# Altium footprint library Connector_USB.PcbLib: 53 footprints (part 4 of 4)
Each footprint in its own frame and in the unit in brackets; x right, y up, seen from the top. Pads: shape width x height; smd on the part's side, far side on the other; paste and mask are expansions set on the pad; w line width, h text height; cw(c..) or ccw(c..) is an arc to the next point about the centre after c.
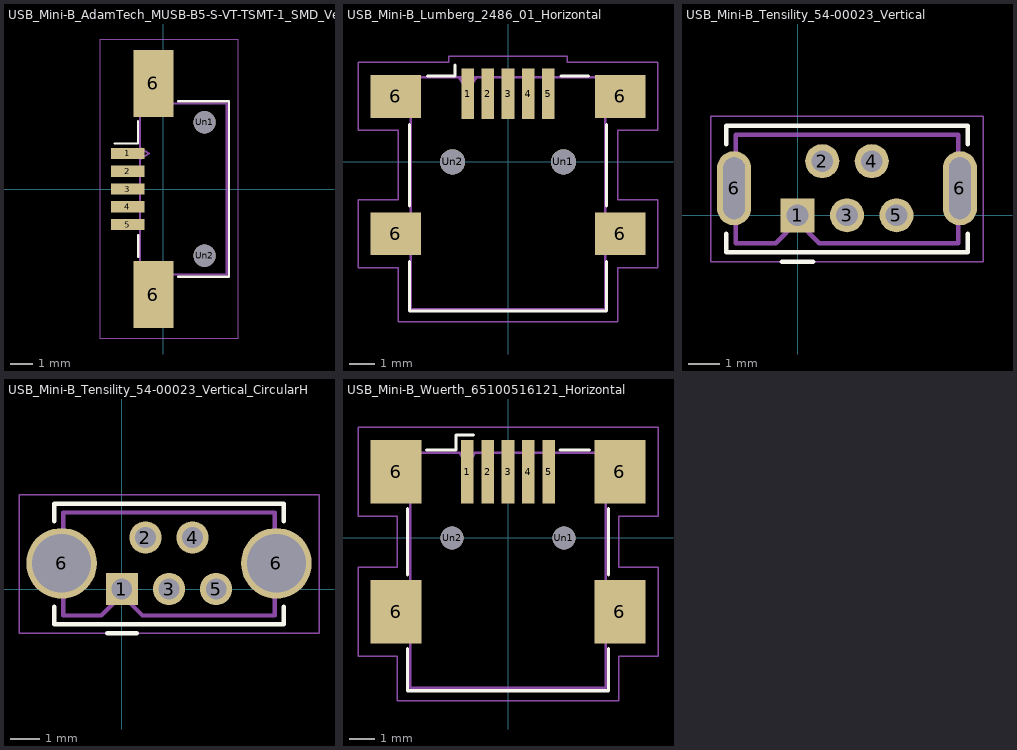
[diagram p3: the footprints below, top view; thin cyan lines are the x and y axes]

## USB_Mini-B_AdamTech_MUSB-B5-S-VT-TSMT-1_SMD_Vertical [mm]
pads (9):
  rect 1.5x0.5 smd: 1(-1.6,1.6) 2(-1.6,0.8) 3(-1.6,0) 4(-1.6,-0.8) 5(-1.6,-1.6)
  rect 1.8x3 smd: 6(-0.45,-4.75) 6(-0.45,4.75)
  round 1 hole 1: Un1(1.85,3) Un2(1.85,-3)
F.SilkS:
  lines w0.1: -2.2,2.05 -1.15,2.05 -1.15,3.05 ; -1.139,-3.064 -1.139,-2.064 ; 0.65,-3.95 2.95,-3.95 2.95,3.95 0.65,3.95
F.CrtYd:
  lines w0.05: -2.85,-6.75 3.35,-6.75 3.35,6.75 -2.85,6.75 -2.85,-6.75
F.Fab:
  lines w0.1: -1.05,-3.85 2.85,-3.85 2.85,3.85 -1.05,3.85 ; -1.05,1.35 -0.65,1.6 -1.05,1.85 ; 0.2,-3.85 0.2,-5.85 -1.05,-5.85 -1.05,5.85 0.2,5.85 0.2,3.85
  text "'.Designator'" at 1.33,-4.062 h1

## USB_Mini-B_Lumberg_2486_01_Horizontal [mm]
pads (11):
  rect 0.5x2 smd: 1(-1.6,2.7) 2(-0.8,2.7) 3(0,2.7) 4(0.8,2.7) 5(1.6,2.7)
  rect 2x1.7 smd: 6(-4.45,-2.85) 6(-4.45,2.6) 6(4.45,-2.85) 6(4.45,2.6)
  round 1 hole 1: Un1(2.2,0) Un2(-2.2,0)
F.SilkS:
  lines w0.12: -3.91,-3.96 -3.91,-5.91 3.91,-5.91 3.91,-3.96 ; -3.91,-1.74 -3.91,1.49 ; -3.19,3.41 -2.11,3.41 -2.11,3.84 ; 2.11,3.41 3.19,3.41 ; 3.91,-1.74 3.91,1.49
F.CrtYd:
  lines w0.05: -5.95,-4.2 -4.35,-4.2 -4.35,-6.35 4.35,-6.35 4.35,-4.2 5.95,-4.2 5.95,-1.5 4.35,-1.5 4.35,1.25 5.95,1.25 5.95,3.95 2.35,3.95 2.35,4.2 -2.35,4.2 -2.35,3.95 -5.95,3.95 -5.95,1.25 -4.35,1.25 -4.35,-1.5 -5.95,-1.5 -5.95,-4.2
F.Fab:
  lines w0.1: -1.95,3.35 -1.6,2.85 -1.25,3.35 ; -3.85,-5.85 3.85,-5.85 3.85,3.35 -3.85,3.35 -3.85,-5.85
  text "'.Designator'" at -4.047,-2.44 h1

## USB_Mini-B_Tensility_54-00023_Vertical [mm]
pads (7):
  rect 1.1x1.1 hole 0.7: 1(0,0)
  round 1.1 hole 0.7: 2(0.8,1.75) 3(1.6,0) 4(2.4,1.75) 5(3.2,0)
  rrect100% 1.1x2.4 hole 2 slot 0.7 at 0 deg: 6(-2.05,0.875) 6(5.25,0.875)
F.SilkS:
  lines w0.15: -2.3,-0.6 -2.3,-1.2 5.5,-1.2 5.5,-0.6 ; -2.3,2.3 -2.3,2.9 5.5,2.9 5.5,2.3 ; -0.5,-1.5 0.5,-1.5
F.CrtYd:
  lines w0.05: -2.8,-1.5 6,-1.5 6,3.2 -2.8,3.2 -2.8,-1.5
F.Fab:
  lines w0.15: -2,-0.9 -0.7,-0.9 0,-0.2 0.7,-0.9 5.2,-0.9 5.2,2.6 -2,2.6 -2,-0.9
  text "'.Designator'" at -2.547,0.16 h1

## USB_Mini-B_Tensility_54-00023_Vertical_CircularHoles [mm]
pads (7):
  rect 1.1x1.1 hole 0.7: 1(0,0)
  round 1.1 hole 0.7: 2(0.8,1.75) 3(1.6,0) 4(2.4,1.75) 5(3.2,0)
  round 2.4 hole 2: 6(-2.05,0.875) 6(5.25,0.875)
F.SilkS:
  lines w0.15: -2.3,-0.6 -2.3,-1.2 5.5,-1.2 5.5,-0.6 ; -2.3,2.3 -2.3,2.9 5.5,2.9 5.5,2.3 ; -0.5,-1.5 0.5,-1.5
F.CrtYd:
  lines w0.05: -3.5,-1.5 6.7,-1.5 6.7,3.2 -3.5,3.2 -3.5,-1.5
F.Fab:
  lines w0.15: -2,-0.9 -0.7,-0.9 0,-0.2 0.7,-0.9 5.2,-0.9 5.2,2.6 -2,2.6 -2,-0.9
  text "'.Designator'" at -2.547,0.16 h1

## USB_Mini-B_Wuerth_65100516121_Horizontal [mm]
pads (11):
  rect 0.5x2.5 smd: 1(-1.6,2.6) 2(-0.8,2.6) 3(0,2.6) 4(0.8,2.6) 5(1.6,2.6)
  rect 2x2.5 smd: 6(-4.4,-2.9) 6(-4.4,2.6) 6(4.4,-2.9) 6(4.4,2.6)
  round 0.9 hole 0.9: Un1(2.2,0) Un2(-2.2,0)
F.SilkS:
  lines w0.12: -3.96,-4.35 -3.96,-6.01 3.96,-6.01 3.96,-4.35 ; -3.96,-1.45 -3.96,1.15 ; -3.2,3.46 -2.05,3.46 -2.05,4.05 -1.35,4.05 ; 2.05,3.46 3.2,3.46 ; 3.96,-1.45 3.96,1.15
F.CrtYd:
  lines w0.05: -5.9,-1.15 -5.89,-4.65 -4.35,-4.65 -4.35,-6.4 4.35,-6.4 4.35,-4.65 5.9,-4.65 5.9,-1.15 4.35,-1.15 4.35,0.85 5.9,0.85 5.9,4.35 -5.9,4.35 -5.9,0.85 -4.35,0.85 -4.35,-1.15 -5.9,-1.15
F.Fab:
  lines w0.1: -3.85,-5.9 -3.85,3.35 -1.9,3.35 -1.6,2.85 -1.3,3.35 3.85,3.35 3.85,-5.9 -3.85,-5.9
  text "'.Designator'" at -4.047,-0.84 h1